# EAGLE library part 74LVC1T45 (library ICs)
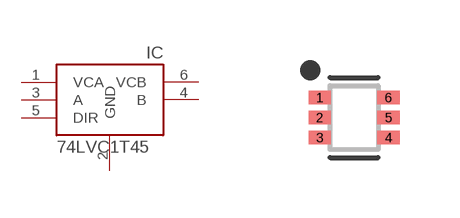
[diagram p3: symbol with the pads of SOTFL50P157X60-6; footprint SOTFL50P157X60-6]

Designator prefix IC

## 74LVC1T45  [SOTFL50P157X60-6]
1  VCA
2  GND
3  A
4  B
5  DIR
6  VCB

## Footprint SOTFL50P157X60-6 (pad centres in mm)
6-SOTFL, 0.50 mm pitch, 1.57 mm span, 1.55 X 1.15 X 0.60 mm body 6-pin SOTFL package with 0.50 mm pitch, 1.57 mm span with body size 1.55 X 1.15 X 0.60 mm
smd 0.555 x 0.34: 1 -0.859,0.5; 2 -0.859,0; 3 -0.859,-0.5; 4 0.859,-0.5; 5 0.859,0; 6 0.859,0.5